# Altium footprint library SMC.PcbLib: 1 footprints
Each footprint in its own frame and in the unit in brackets; x right, y up, seen from the top. Pads: shape width x height; smd on the part's side, far side on the other; paste and mask are expansions set on the pad; w line width, h text height; cw(c..) or ccw(c..) is an arc to the next point about the centre after c.
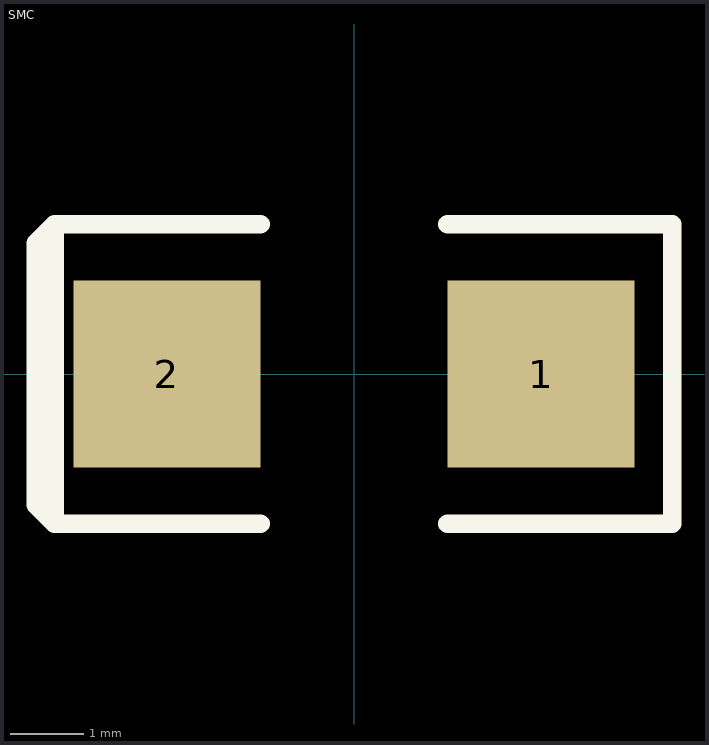
[diagram p0: the footprint, top view; thin cyan lines are the x and y axes]

## SMC [mil] "SMC"
pads (2):
  rect 100x100 smd: 1(100,0) 2(-100,0)
Top Overlay:
  lines w10: -50,-80 -160,-80 ; -50,80 -160,80 ; 50,-80 170,-80 170,80 100,80 50,80 ; -160,-80 -170,-70 -170,70 -160,80 ; -160,-80 -160,80